# EAGLE library part ATTINY402 (library marius)
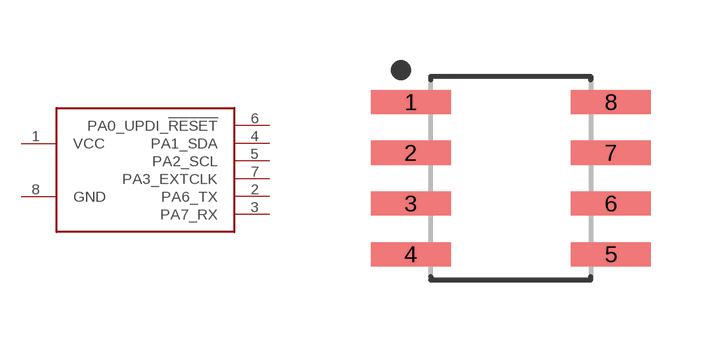
[diagram p10: symbol with the pads of SOIC127P605X175-8; footprint SOIC127P605X175-8]

Designator prefix U

## ATTINY402 (MPN: ATTINY402-SSFR)  [SOIC127P605X175-8]
1  VCC
2  PA6_TX
3  PA7_RX
4  PA1_SDA
5  PA2_SCL
6  PA0_UPDI_!RESET
7  PA3_EXTCLK
8  GND

## Footprint SOIC127P605X175-8 (pad centres in mm)
8-SOIC, 1.27 mm pitch, 6.05 mm span, 4.90 X 3.90 X 1.75 mm body 8-pin SOIC package with 1.27 mm pitch, 6.05 mm span with body size 4.90 X 3.90 X 1.75 mm
smd 2.001 x 0.602: 1 -2.506,1.905; 2 -2.506,0.635; 3 -2.506,-0.635; 4 -2.506,-1.905; 5 2.506,-1.905; 6 2.506,-0.635; 7 2.506,0.635; 8 2.506,1.905